# Altium schematic symbol library LV25-P.SchLib: 2 symbols
Pins are listed as number, name and electrical type; pins without a type are passive.

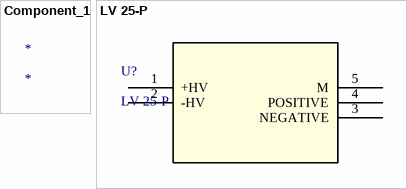
[diagram p0: symbols Component_1 to LV 25-P]

## Component_1
designator *

## LV 25-P
designator U?
No Description Available; Mfr_Name: LEM; Copyright: Copyright (C) 2022 Ultra Librarian. All rights reserved.; Manufacturer_Part_Number: LV 25-P; Digi-Key_Part_Number_1: 398-1019-ND; RefDes: RefDes; Type: DEV
footprint LV 25-P_LEM
pins: 1 +HV, 2 -HV, 3 NEGATIVE, 4 POSITIVE, 5 M